# EAGLE library part SIMCARD_HOLDER_693022010811 (library clackboard_lib)
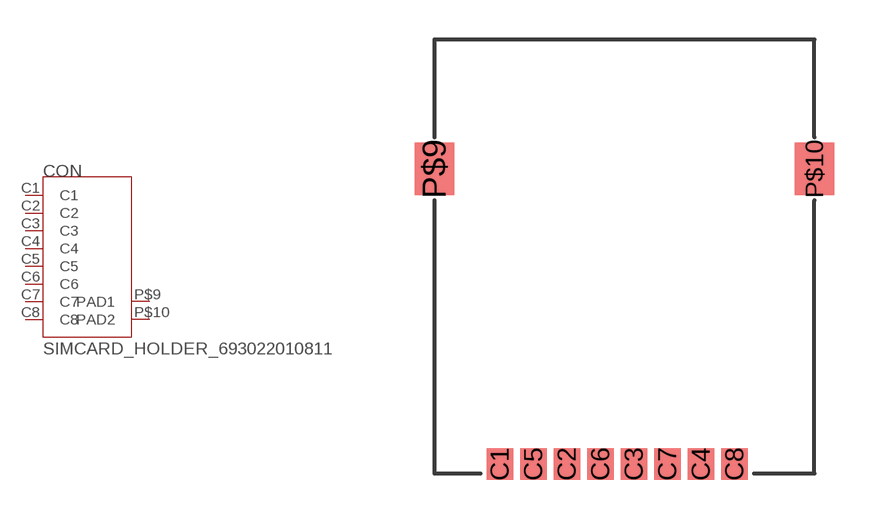
[diagram p12: symbol with the pads of SIMCARD_HOLDER_693022010811; footprint SIMCARD_HOLDER_693022010811]

Designator prefix CON

## SIMCARD_HOLDER_693022010811  [SIMCARD_HOLDER_693022010811]
C1  C1
C2  C2
C3  C3
C4  C4
C5  C5
C6  C6
C7  C7
C8  C8
P$9  PAD1
P$10  PAD2

## Footprint SIMCARD_HOLDER_693022010811 (pad centres in mm)
smd 1 x 1.2: C1 -4.72,0; C2 -2.18,0; C3 0.36,0; C4 2.9,0; C5 -3.45,0; C6 -0.91,0; C7 1.63,0; C8 4.17,0
smd 1.5 x 2: P$9 -7.2,11.2; P$10 7.2,11.2